# Altium footprint library JE.PcbLib: 1 footprints
Each footprint in its own frame and in the unit in brackets; x right, y up, seen from the top. Pads: shape width x height; smd on the part's side, far side on the other; paste and mask are expansions set on the pad; w line width, h text height; cw(c..) or ccw(c..) is an arc to the next point about the centre after c.
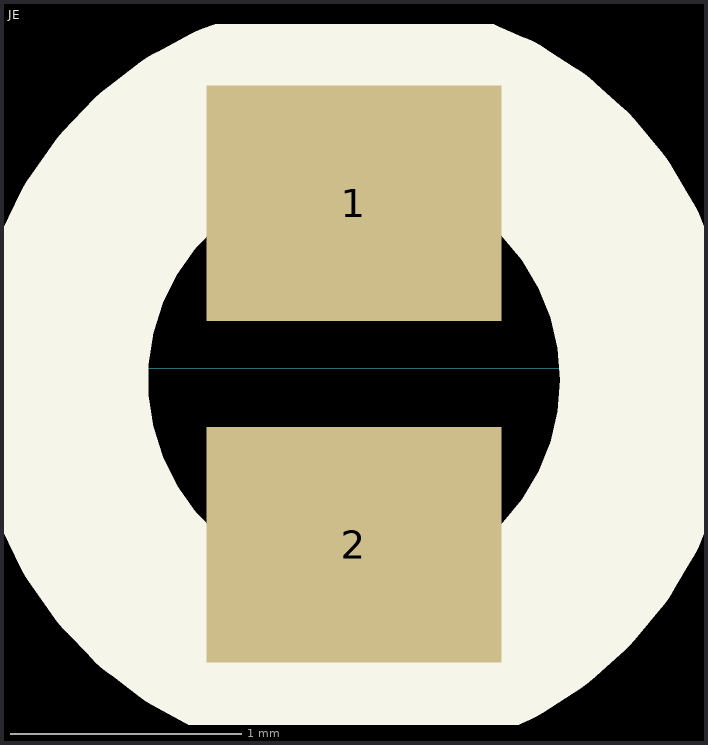
[diagram p0: the footprint, top view; thin cyan lines are the x and y axes]

## JE [mil]
pads (2):
  rect 50x40 smd: 1(468,28) 2(468,-30)
Top Overlay:
  circle w30: c468,-2 r50.01